# Altium footprint library PCB - LEADED - SON65P200X200X80-7N.PcbLib: 1 footprints
Each footprint in its own frame and in the unit in brackets; x right, y up, seen from the top. Pads: shape width x height; smd on the part's side, far side on the other; paste and mask are expansions set on the pad; w line width, h text height; cw(c..) or ccw(c..) is an arc to the next point about the centre after c.
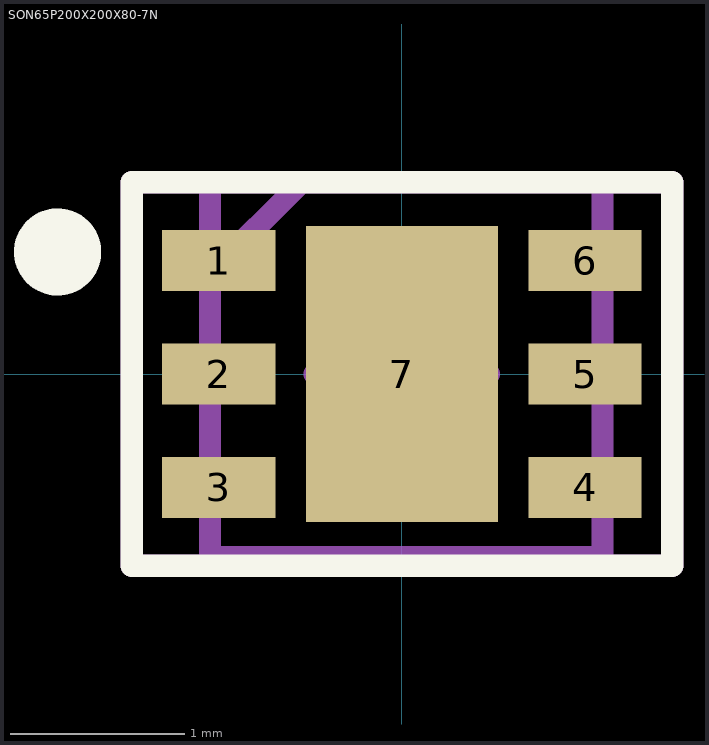
[diagram p0: the footprint, top view; thin cyan lines are the x and y axes]

## SON65P200X200X80-7N [mm]
pads (7):
  rect 0.65x0.35 smd: 1(-1.05,0.65) 2(-1.05,0) 3(-1.05,-0.65) 4(1.05,-0.65) 5(1.05,0) 6(1.05,0.65)
  rect 1.1x1.7 smd: 7(0,0)
Top Overlay:
  circle w0.25: c-1.975,0.7 r0.125
  lines w0.127: -1.55,-1.1 -1.55,1.1 1.55,1.1 1.55,-1.1 -1.55,-1.1
Top Assembly:
  lines w0.127: -1.075,0.6 -0.575,1.1 ; -1.1,-1.05 -1.1,1.1 1.15,1.1 1.15,-1.05 -1.1,-1.05
Top Courtyard:
  lines w0.127: -1.55,-1.1 1.55,-1.1 1.55,1.1 -1.1,1.1 -1.55,1.1 -1.55,-1.1
Top Designator:
  text ".Designator" at 0.354,1.537 h1.52
Top Component Center:
  lines w0.127: -0.5,0 0.5,0 ; 0,-0.5 0,0.5
3D body "NCP730BMT500TBG.stp": height 0.8, standoff 0, extent -1.025,-0.975 1.075,1.025